# Altium footprint library Atlanta Micro.PcbLib: 2 footprints
Each footprint in its own frame and in the unit in brackets; x right, y up, seen from the top. Pads: shape width x height; smd on the part's side, far side on the other; paste and mask are expansions set on the pad; w line width, h text height; cw(c..) or ccw(c..) is an arc to the next point about the centre after c.
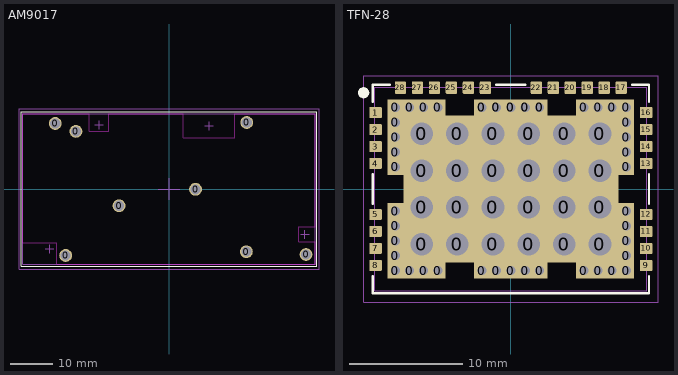
[diagram p0: the footprints below, top view; thin cyan lines are the x and y axes]

## AM9017 [mm]
pads (8):
  round 3 hole 2.348: 0(-26.545,15.305) 0(-24.111,-15.504) 0(-21.725,13.448) 0(-11.644,-3.909) 0(6.197,-0.069) 0(18.054,-14.633) 0(18.139,15.517) 0(31.967,-15.281)
Top Layer:
  region: -34.114,-12.52
Top Layer keep-out:
  lines w0.05: -34.114,17.574 -34.114,-12.52 -26.161,-12.52 -26.161,-17.574 34.114,-17.574 34.114,-12.307 30.264,-12.307 30.264,-8.856 34.114,-8.856 34.114,17.574 15.352,17.574 15.352,11.908 3.376,11.908 3.376,17.574 -14.03,17.574 -14.03,13.507 -18.637,13.507 -18.637,17.574 -34.114,17.574 ; -34.114,17.574 -34.114,17.574
Top Overlay:
  lines w0.2: -34.5,-18 -34.5,18 34.5,18 34.5,-18 -34.5,-18
Top Solder:
  region: -34.114,17.574 -34.114,-12.52 -26.161,-12.52 -26.161,-17.574 34.114,-17.574 34.114,-12.307 30.264,-12.307 30.264,-8.856 34.114,-8.856 34.114,17.574 15.352,17.574 15.352,11.908 3.376,11.908 3.376,17.574 -14.03,17.574 -14.03,13.507 -18.637,13.507 -18.637,17.574
Mechanical 1:
  lines w0.1: -34.114,-17.574 34.114,-17.574 34.114,17.574 -34.114,17.574 -34.114,-17.574
Mechanical 13:
  lines w0.1: -34.114,17.574 -34.114,17.574 ; 34.114,-17.574 34.114,-17.574
Mechanical 15:
  lines w0.1: -28.869,-13.955 -26.869,-13.955 ; -27.869,-14.955 -27.869,-12.955 ; -17.333,14.958 -15.333,14.958 ; -16.333,13.958 -16.333,15.958 ; -2.5,0 2.5,0 ; 0,-2.5 0,2.5 ; 8.364,14.745 10.364,14.745 ; 9.364,13.745 9.364,15.745 ; 30.689,-10.582 32.689,-10.582 ; 31.689,-11.582 31.689,-9.582 ; -35,-18.75 35,-18.75 35,18.75 -35,18.75 -35,-18.75
  text "REF IN" at -19.25,10.75 h3
  text "RF IN" at -30.25,-12.25 h3
  text "PWR/CTL" at 5,9.042 h3
  text "IF OUT" at 23.75,-11.25 h3
3D body "AM9017 Board to Board STEP File.step": height 6.73, standoff 0.01, extent -34.114,-17.574 34.114,17.574

## TFN-28 [mm] "Three-Sided Flat No-Lead, 1.50mm Pitch, 18.00mm Width, 24.00mm Length, 4.00mm Height, 28 Pin"
pads (100):
  rect 1.4x1.4 hole 0.8: 0(-10.2,-7.2) 0(-10.2,-5.887) 0(-10.2,-4.575) 0(-10.2,-3.263) 0(-10.2,-1.95) 0(-10.2,1.95) 0(-10.2,3.263) 0(-10.2,4.575) 0(-10.2,5.887) 0(-10.2,7.2) 0(-8.95,-7.2) 0(-8.95,7.2) 0(-7.7,-7.2) 0(-7.7,7.2) 0(-6.45,-7.2) 0(-6.45,7.2) 0(-2.55,-7.2) 0(-2.55,7.2) 0(-2.55,7.2) 0(-1.275,-7.2) 0(-1.275,7.2) 0(-1.275,7.2) 0(0,-7.2) 0(0,7.2) 0(0,7.2) 0(1.275,-7.2) 0(1.275,7.2) 0(1.275,7.2) 0(2.55,-7.2) 0(2.55,7.2) 0(2.55,7.2) 0(6.45,-7.2) 0(6.45,7.2) 0(7.7,-7.2) 0(7.7,7.2) 0(8.95,-7.2) 0(8.95,7.2) 0(10.2,-7.2) 0(10.2,-5.887) 0(10.2,-4.575) 0(10.2,-3.263) 0(10.2,-1.95) 0(10.2,1.95) 0(10.2,3.263) 0(10.2,4.575) 0(10.2,5.887) 0(10.2,7.2)
  rect 3.25x3.25 hole 2: 0(-7.875,-4.875) 0(-7.875,-1.625) 0(-7.875,1.625) 0(-7.875,4.875) 0(-4.725,-4.875) 0(-4.725,-1.625) 0(-4.725,1.625) 0(-4.725,4.875) 0(-1.575,-4.875) 0(-1.575,-1.625) 0(-1.575,1.625) 0(-1.575,4.875) 0(1.575,-4.875) 0(1.575,-1.625) 0(1.575,1.625) 0(1.575,4.875) 0(4.725,-4.875) 0(4.725,-1.625) 0(4.725,1.625) 0(4.725,4.875) 0(7.875,-4.875) 0(7.875,-1.625) 0(7.875,1.625) 0(7.875,4.875)
  rrect20% 1.1x1 smd: 1(-11.95,6.75) 2(-11.95,5.25) 3(-11.95,3.75) 4(-11.95,2.25) 5(-11.95,-2.25) 6(-11.95,-3.75) 7(-11.95,-5.25) 8(-11.95,-6.75) 9(11.95,-6.75) 10(11.95,-5.25) 11(11.95,-3.75) 12(11.95,-2.25) 13(11.95,2.25) 14(11.95,3.75) 15(11.95,5.25) 16(11.95,6.75)
  rrect20% 1x1.1 smd: 17(9.75,8.95) 18(8.25,8.95) 19(6.75,8.95) 20(5.25,8.95) 21(3.75,8.95) 22(2.25,8.95) 23(-2.25,8.95) 24(-3.75,8.95) 25(-5.25,8.95) 26(-6.75,8.95) 27(-8.25,8.95) 28(-9.75,8.95)
  round 1 on Top Overlay: ""(-13,8.5)
Top Overlay:
  lines w0.2: -12.2,-7.7 -12.2,-9.2 12.2,-9.2 12.2,-7.7 ; -12.2,-1.3 -12.2,1.3 ; -12.2,7.7 -12.2,9.2 -10.7,9.2 ; -1.3,9.2 1.3,9.2 ; 10.7,9.2 12.2,9.2 12.2,7.7 ; 12.2,-1.3 12.2,1.3
Mechanical 1:
  lines w0.1: -12,-9 12,-9 12,9 -12,9 -12,-9
Mechanical 15:
  lines w0.1: -0.5,0 0.5,0 ; 0,-0.5 0,0.5 ; -13,-10 13,-10 13,10 -13,10 -13,-10
3D body "Atlanta_Micro_TFN-28-1EP_18x24mm_P1.5mm.STEP": height 4.5, standoff 0, extent -12,-9 12,9